# Altium schematic symbol library 686 1xx 183 522.SchLib: 9 symbols
Pins are listed as number, name and electrical type; pins without a type are passive.

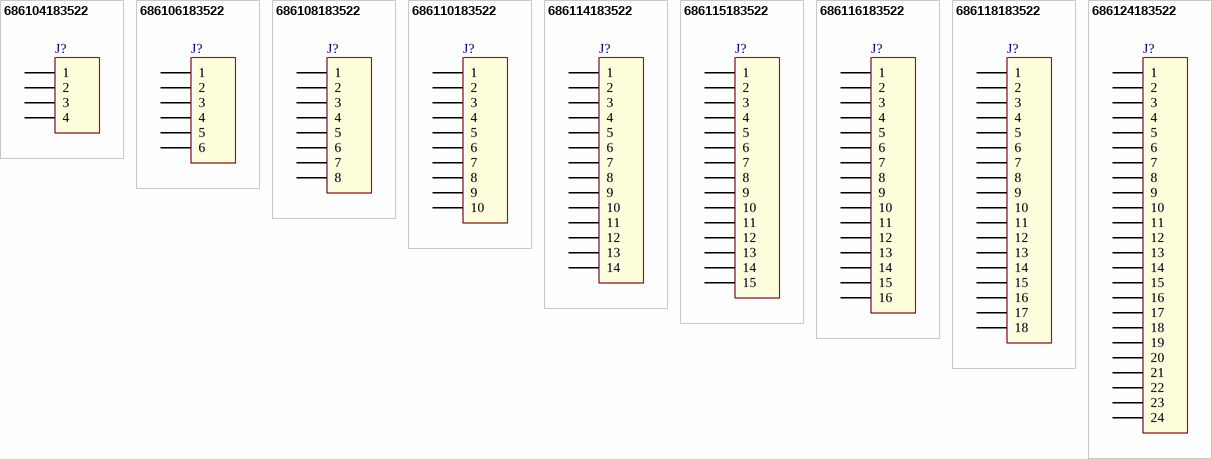
[diagram p0: symbols 686104183522 to 686124183522]

## 686104183522
designator J?
1.00 mm SMT Horizontal Bottom Contact - Low Profile WR-FPC, 4 pins; Part Number: 686104183522; Pitch: 1 mm; Pin Number: 4; ComponentLink1Description: Manufacturer; ComponentLink1URL: http://www.we-online.de; ComponentLink2Description: Datasheet; ComponentLink2URL: http://katalog.we-online.com/em/datasheet/686104183522.pdf; Published Date: April 2017; Publisher: Wurth Elektronik
footprint 686104183522 (1.00 mm SMT Horizontal Bottom Contact - Low Profile, 4p)
pins: 1, 2, 3, 4

## 686106183522
designator J?
1.00 mm SMT Horizontal Bottom Contact - Low Profile WR-FPC, 6 pins; Part Number: 686106183522; Pitch: 1 mm; Pin Number: 6; ComponentLink1Description: Manufacturer; ComponentLink1URL: http://www.we-online.de; ComponentLink2Description: Datasheet; ComponentLink2URL: http://katalog.we-online.com/em/datasheet/686106183522.pdf; Published Date: April 2017; Publisher: Wurth Elektronik
footprint 686106183522 (1.00 mm SMT Horizontal Bottom Contact - Low Profile, 6p)
pins: 1, 2, 3, 4, 5, 6

## 686108183522
designator J?
1.00 mm SMT Horizontal Bottom Contact - Low Profile WR-FPC, 8 pins; Part Number: 686108183522; Pitch: 1 mm; Pin Number: 8; ComponentLink1Description: Manufacturer; ComponentLink1URL: http://www.we-online.de; ComponentLink2Description: Datasheet; ComponentLink2URL: http://katalog.we-online.com/em/datasheet/686108183522.pdf; Published Date: April 2017; Publisher: Wurth Elektronik
footprint 686108183522 (1.00 mm SMT Horizontal Bottom Contact - Low Profile, 8p)
pins: 1, 2, 3, 4, 5, 6, 7, 8

## 686110183522
designator J?
1.00 mm SMT Horizontal Bottom Contact - Low Profile WR-FPC, 10 pins; Part Number: 686110183522; Pitch: 1 mm; Pin Number: 10; ComponentLink1Description: Manufacturer; ComponentLink1URL: http://www.we-online.de; ComponentLink2Description: Datasheet; ComponentLink2URL: http://katalog.we-online.com/em/datasheet/686110183522.pdf; Published Date: April 2017; Publisher: Wurth Elektronik
footprint 686110183522 (1.00 mm SMT Horizontal Bottom Contact - Low Profile, 10p)
pins: 1, 2, 3, 4, 5, 6, 7, 8, 9, 10

## 686114183522
designator J?
1.00 mm SMT Horizontal Bottom Contact - Low Profile WR-FPC, 14 pins; Part Number: 686114183522; Pitch: 1 mm; Pin Number: 14; ComponentLink1Description: Manufacturer; ComponentLink1URL: http://www.we-online.de; ComponentLink2Description: Datasheet; ComponentLink2URL: http://katalog.we-online.com/em/datasheet/686114183522.pdf; Published Date: April 2017; Publisher: Wurth Elektronik
footprint 686114183522 (1.00 mm SMT Horizontal Bottom Contact - Low Profile, 14p)
pins: 1, 2, 3, 4, 5, 6, 7, 8, 9, 10, 11, 12, 13, 14

## 686115183522
designator J?
1.00 mm SMT Horizontal Bottom Contact - Low Profile WR-FPC, 15 pins; Part Number: 686115183522; Pitch: 1 mm; Pin Number: 15; ComponentLink1Description: Manufacturer; ComponentLink1URL: http://www.we-online.de; ComponentLink2Description: Datasheet; ComponentLink2URL: http://katalog.we-online.com/em/datasheet/686115183522.pdf; Published Date: April 2017; Publisher: Wurth Elektronik
footprint 686115183522 (1.00 mm SMT Horizontal Bottom Contact - Low Profile, 15p)
pins: 1, 2, 3, 4, 5, 6, 7, 8, 9, 10, 11, 12, 13, 14, 15

## 686116183522
designator J?
1.00 mm SMT Horizontal Bottom Contact - Low Profile WR-FPC, 16 pins; Part Number: 686116183522; Pitch: 1 mm; Pin Number: 16; ComponentLink1Description: Manufacturer; ComponentLink1URL: http://www.we-online.de; ComponentLink2Description: Datasheet; ComponentLink2URL: http://katalog.we-online.com/em/datasheet/686116183522.pdf; Published Date: April 2017; Publisher: Wurth Elektronik
footprint 686116183522 (1.00 mm SMT Horizontal Bottom Contact - Low Profile, 16p)
pins: 1, 2, 3, 4, 5, 6, 7, 8, 9, 10, 11, 12, 13, 14, 15, 16

## 686118183522
designator J?
1.00 mm SMT Horizontal Bottom Contact - Low Profile WR-FPC, 18 pins; Part Number: 686118183522; Pitch: 1 mm; Pin Number: 18; ComponentLink1Description: Manufacturer; ComponentLink1URL: http://www.we-online.de; ComponentLink2Description: Datasheet; ComponentLink2URL: http://katalog.we-online.com/em/datasheet/686118183522.pdf; Published Date: April 2017; Publisher: Wurth Elektronik
footprint 686118183522 (1.00 mm SMT Horizontal Bottom Contact - Low Profile, 18p)
pins: 1, 2, 3, 4, 5, 6, 7, 8, 9, 10, 11, 12, 13, 14, 15, 16, 17, 18

## 686124183522
designator J?
1.00 mm SMT Horizontal Bottom Contact - Low Profile WR-FPC, 24 pins; Part Number: 686124183522; Pitch: 1 mm; Pin Number: 24; ComponentLink1Description: Manufacturer; ComponentLink1URL: http://www.we-online.de; ComponentLink2Description: Datasheet; ComponentLink2URL: http://katalog.we-online.com/em/datasheet/686124183522.pdf; Published Date: April 2017; Publisher: Wurth Elektronik
footprint 686124183522 (1.00 mm SMT Horizontal Bottom Contact - Low Profile, 24p)
pins: 1, 2, 3, 4, 5, 6, 7, 8, 9, 10, 11, 12, 13, 14, 15, 16, 17, 18, 19, 20, 21, 22, 23, 24